# Altium schematic symbol library BQ78350DBTR-R1A.SchLib: 1 symbol
Pins are listed as number, name and electrical type; pins without a type are passive.

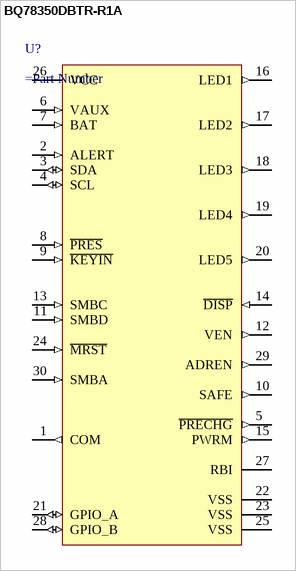
[diagram p0: symbol BQ78350DBTR-R1A]

## BQ78350DBTR-R1A
designator U?
=Description; ComponentLink1Description: Datasheet; ComponentLink1URL: https://www.mouser.ca/datasheet/2/445/61304011121-1718151.pdf
pins: 1 COM (out), 2 ALERT (in), 3 SDA (io), 4 SCL (io), 5 ~{PRECHG} (out), 6 VAUX (in), 7 BAT (in), 8 ~{PRES} (in), 9 ~{KEYIN} (in), 10 SAFE (out), 11 SMBD (in), 12 VEN (out), 13 SMBC (in), 14 ~{DISP} (in), 15 PWRM (out), 16 LED1 (out), 17 LED2 (out), 18 LED3 (out), 19 LED4 (out), 20 LED5 (out), 21 GPIO_A (io), 22 VSS (power), 23 VSS (power), 24 ~{MRST} (in), 25 VSS (power), 26 VCC (power), 27 RBI (power), 28 GPIO_B (io), 29 ADREN (out), 30 SMBA (in)